# Altium schematic symbol library B32921C3223M289.SchLib: 1 symbol
Pins are listed as number, name and electrical type; pins without a type are passive.

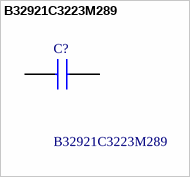
[diagram p0: symbol B32921C3223M289]

## B32921C3223M289
designator C?
Cap Film Suppression X2 0.022uF 305VAC PP 20% (13 X 4 X 9mm) Radial 10mm 105C Ammo; Manufacturer_Name: TDK; Mouser Part Number: 871-B32921C3223M289; Mouser Price/Stock: https://www.mouser.co.uk/ProductDetail/EPCOS-TDK/B32921C3223M289?qs=w5o0Loj0u7PCwfh7XJ3saQ%3D%3D; Manufacturer_Part_Number: B32921C3223M289; Datasheet Link: https://product.tdk.com/system/files/dam/doc/product/capacitor/film/emi/data_sheet/20/20/db/fc_2009/x2_b32921_928.pdf; Geometry.Height: 9mm
footprint B32921C3103M000
pins: 1, 2